# Altium footprint library retroBreadboard_v1i1.PcbLib: 9 footprints
Each footprint in its own frame and in the unit in brackets; x right, y up, seen from the top. Pads: shape width x height; smd on the part's side, far side on the other; paste and mask are expansions set on the pad; w line width, h text height; cw(c..) or ccw(c..) is an arc to the next point about the centre after c.
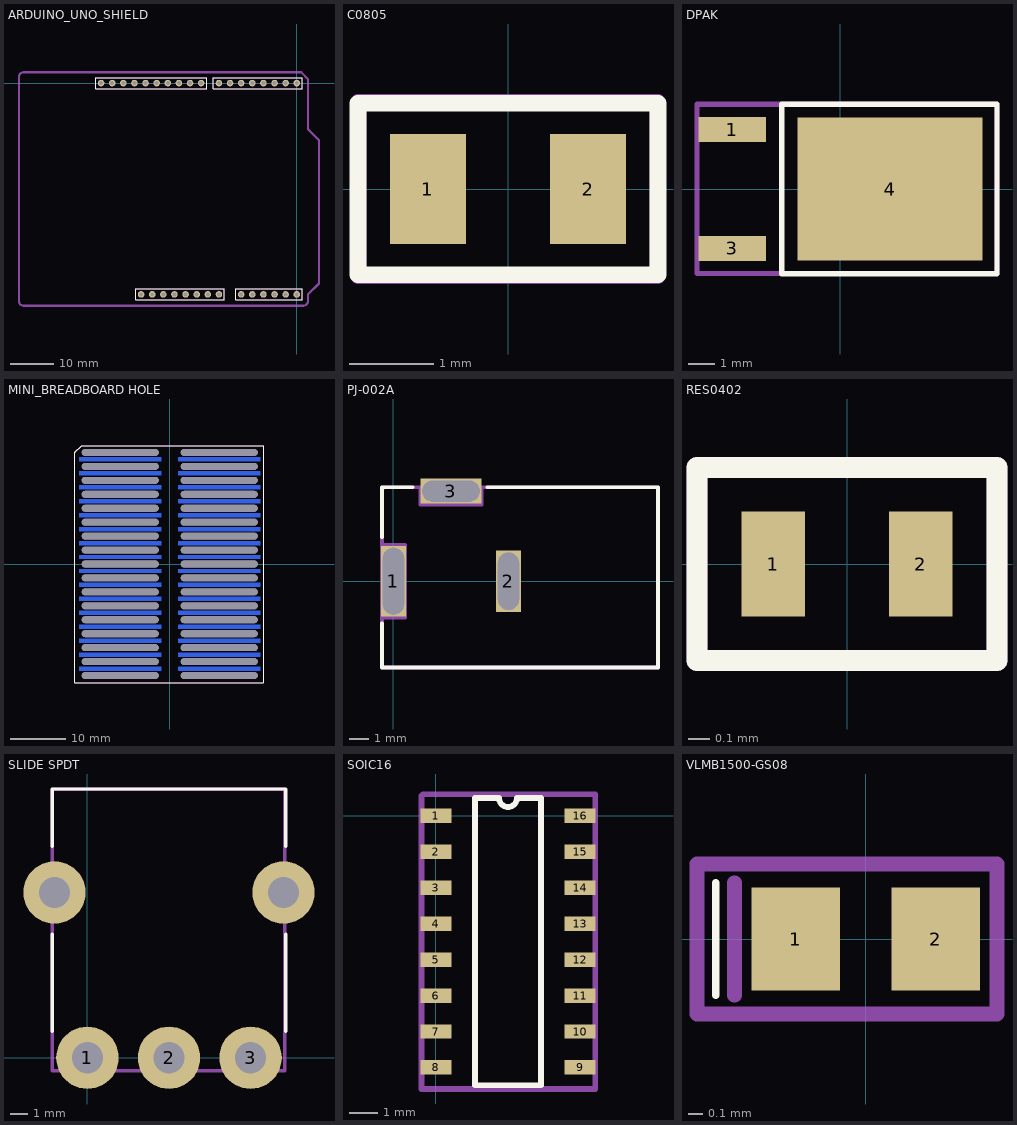
[diagram p0: the footprints below, top view; thin cyan lines are the x and y axes]

## ARDUINO_UNO_SHIELD [mm]
pads (32):
  round 1.5 hole 0.9: 1(0,0) 2(-2.54,0) 3(-5.08,0) 4(-7.62,0) 5(-10.16,0) 6(-12.7,0) 7(-15.24,0) 8(-17.78,0) 9(-21.844,0) 10(-24.384,0) 11(-26.924,0) 12(-29.464,0) 13(-32.004,0) 14(-34.544,0) 15(-37.084,0) 16(-39.624,0) 17(0,-48.26) 18(-2.54,-48.26) 19(-5.08,-48.26) 20(-7.62,-48.26) 21(-10.16,-48.26) 22(-12.7,-48.26) 23(-17.78,-48.26) 24(-20.32,-48.26) 25(-22.86,-48.26) 26(-25.4,-48.26) 27(-27.94,-48.26) 28(-30.48,-48.26) 29(-33.02,-48.26) ""(-44.704,0) ""(-42.164,0) ""(-35.56,-48.26)
Top Overlay:
  lines w0.2: -45.974,-1.27 -22.479,-1.27 -20.574,-1.27 -20.574,1.27 -45.974,1.27 -45.974,-1.27 ; -36.83,-49.53 -16.51,-49.53 -16.51,-46.99 -36.83,-46.99 -36.83,-49.53 ; -19.05,-1.27 -19.05,1.27 1.27,1.27 1.27,-1.27 -19.05,-1.27 ; -13.97,-49.53 -13.97,-46.99 1.27,-46.99 1.27,-49.53 -13.97,-49.53
Drawing:
  circle w1: c0,0 r0.105
  lines w0.2: -45.974,-1.27 -45.974,1.27 -20.574,1.27 -20.574,-1.27 -45.974,-1.27 ; -36.83,-49.53 -36.83,-46.99 -16.51,-46.99 -16.51,-49.53 -36.83,-49.53 ; -19.05,-1.27 -19.05,1.27 1.27,1.27 1.27,-1.27 -19.05,-1.27 ; -13.97,-49.53 -13.97,-46.99 1.27,-46.99 1.27,-49.53 -13.97,-49.53
  lines w0.5: -63.456,-49.842 -63.413,-50.096 -63.329,-50.329 -63.159,-50.54 -62.948,-50.71 -62.715,-50.794 -62.461,-50.837 1.546,-50.837 1.799,-50.794 2.032,-50.71 2.244,-50.54 2.413,-50.329 2.498,-50.096 2.54,-49.842 2.54,-48.298 5.079,-45.759 5.079,-13.025 2.54,-10.486 2.54,0.94 1.017,2.463 -62.461,2.463 -62.715,2.421 -62.948,2.315 -63.159,2.167 -63.329,1.955 -63.413,1.723 -63.456,1.448 -63.456,-49.842

## C0805 [mm]
pads (2):
  rect 0.9x1.3 smd: 1(-0.95,0) 2(0.95,0)
Top Overlay:
  lines w0.2: -1.778,-1.016 1.778,-1.016 1.778,1.016 -1.778,1.016 -1.778,-1.016
Drawing:
  lines w0.2: -1.775,-1.025 1.775,-1.025 1.775,1.025 -1.775,1.025 -1.775,-1.025
  text "'.Designator'" at -0.325,-0.425 h0.8
3D body "C0805.step": height 0.81, standoff 0.01, extent -1,-0.625 1,0.625

## DPAK [mm] "D-PAK, 3-Pads, Body 6.10x6.56mm (max), IPC Medium Density"
height 2.38
pads (3):
  rect 2.6x0.95 smd: 1(-4.15,2.28) 3(-4.15,-2.28)
  rect 7.1x5.5 smd: 4(1.9,0)
Top Overlay:
  lines w0.2: -2.25,-3.25 6,-3.25 6,3.25 -2.25,3.25 -2.25,-3.25
Drawing:
  circle w0.2: c-4.191,2.286 r0.092
  lines w0.2: -5.5,-3.242 -5.5,3.251 6,3.251 6,-3.242 -5.5,-3.242
  text "'.Designator'" at -1.778,-0.356 h1.52
3D body "D-PAK.step": height 2.31, standoff 0.01, extent -3.937,-3.242 5.563,3.251

## MINI_BREADBOARD HOLE [mm]
pads (66):
  rect 15x0.7 smd far side mask+0.05: 1(-9.017,19.05) 2(-9.017,16.51) 3(-9.017,13.97) 4(-9.017,11.43) 5(-9.017,8.89) 6(-9.017,6.35) 7(-9.017,3.81) 8(-9.017,1.27) 9(-9.017,-1.27) 10(-9.017,-3.81) 11(-9.017,-6.35) 12(-9.017,-8.89) 13(-9.017,-11.43) 14(-9.017,-13.97) 15(-9.017,-16.51) 16(-9.017,-19.05) 17(9.017,19.05) 18(9.017,16.51) 19(9.017,13.97) 20(9.017,11.43) 21(9.017,8.89) 22(9.017,6.35) 23(9.017,3.81) 24(9.017,1.27) 25(9.017,-1.27) 26(9.017,-3.81) 27(9.017,-6.35) 28(9.017,-8.89) 29(9.017,-11.43) 30(9.017,-13.97) 31(9.017,-16.51) 32(9.017,-19.05)
  rrect100% 14x1.2 hole 1.2 slot 14 at 0 deg unplated: ""(-9.017,-20.32) ""(-9.017,-17.78) ""(-9.017,-15.24) ""(-9.017,-12.7) ""(-9.017,-10.16) ""(-9.017,-7.62) ""(-9.017,-5.08) ""(-9.017,-2.54) ""(-9.017,0) ""(-9.017,2.54) ""(-9.017,5.08) ""(-9.017,7.62) ""(-9.017,10.16) ""(-9.017,12.7) ""(-9.017,15.24) ""(-9.017,17.78) ""(-9.017,20.32) ""(9.017,-20.32) ""(9.017,-17.78) ""(9.017,-15.24) ""(9.017,-12.7) ""(9.017,-10.16) ""(9.017,-7.62) ""(9.017,-5.08) ""(9.017,-2.54) ""(9.017,0) ""(9.017,2.54) ""(9.017,5.08) ""(9.017,7.62) ""(9.017,10.16) ""(9.017,12.7) ""(9.017,15.24) ""(9.017,17.78) ""(9.017,20.32)
Top Overlay:
  lines w0.2: -17.247,20.32 -17.272,20.32 ; -17.272,20.32 -16.027,21.565 -5.817,21.565 5.563,21.565 17.018,21.565 17.018,-21.59 -17.272,-21.59 -17.272,20.32
Drawing:
  lines w0.2: -17.247,20.32 -17.272,20.32 ; -17.272,20.32 -17.272,-21.59 17.018,-21.59 17.018,21.565 5.563,21.565 -5.817,21.565 -16.027,21.565 -17.272,20.32
  text "'.Designator'" at 0,-7.62 h2
3D body "breadboard_ver2.stp": height 8.51, standoff 0.01, extent -17.25,-21.48 17.25,21.64
3D body: height 22.75, standoff -20.37, extent 43.307,9.398 43.307,9.398

## PJ-002A [mm] "CONN PWR JACK 2X5.5MM SOLDER"
pads (3):
  rect 1.3x3.7 hole 1.1 slot 3.5 at 90 deg: 1(0,0)
  rect 1.3x3.2 hole 1.1 slot 3 at 90 deg: 2(6,0)
  rect 3.2x1.3 hole 1.1 slot 3 at 0 deg: 3(3,4.7)
Top Overlay:
  lines w0.2: -0.6,-2.2 -0.6,-4.5 13.8,-4.5 13.8,4.9 4.9,4.9 ; -0.6,2.3 -0.6,4.9 1,4.9
Drawing:
  lines w0.2: -0.6,4.9 13.8,4.9 13.8,-4.5 -0.6,-4.5 -0.6,4.8 -0.5,4.9 ; -0.5,-1.9 0.6,-1.9 0.6,1.9 -0.5,1.9 ; 1.4,4.9 1.4,4 4.6,4 4.6,4.9
  text "'.Designator'" at 2.667,-0.889 h1
3D body "PJ-002AH.STEP": height 11.05, standoff -3.45, extent -0.6,-4.5 13.8,4.9

## RES0402 [mm]
pads (2):
  rect 0.3x0.5 smd mask+0.02: 1(-0.35,0) 2(0.35,0)
Top Overlay:
  lines w0.1: -0.711,-0.457 0.711,-0.457 0.711,0.457 -0.711,0.457 -0.711,-0.457
Drawing:
  lines w0.1: -0.711,-0.457 0.711,-0.457 0.711,0.457 -0.711,0.457 -0.711,-0.457
  text "'.Designator'" at -0.66,-0.254 h0.5
3D body "res0402.step": height 0.25, standoff 0, extent -0.5,-0.25 0.5,0.25

## SLIDE SPDT [mm] "500SSP1S1M6QEA"
pads (5):
  round 3.6 hole 1.8: 1(0,0) 2(4.7,0) 3(9.4,0) ""(-1.9,9.53) ""(11.3,9.53)
Top Overlay:
  lines w0.2: -2.032,1.524 -2.032,7.112 ; -2.032,12.192 -2.032,15.494 11.43,15.494 11.43,12.192 ; 11.43,1.524 11.43,7.112
Drawing:
  lines w0.2: -2.032,15.358 -2.032,-0.754 11.379,-0.754 11.379,15.486 -2.032,15.486
  text "'.Designator'" at 5.462,3.495 h2
3D body "1101M2S3ABE2.step": height 6.6, standoff -3.17, extent -2.032,-0.754 11.379,15.486

## SOIC16 [mm]
pads (16):
  rect 1.1x0.51 smd mask+0.02: 1(0,0) 2(0,-1.27) 3(0,-2.54) 4(0,-3.81) 5(0,-5.08) 6(0,-6.35) 7(0,-7.62) 8(0,-8.89) 9(5.1,-8.89) 10(5.1,-7.62) 11(5.1,-6.35) 12(5.1,-5.08) 13(5.1,-3.81) 14(5.1,-2.54) 15(5.1,-1.27) 16(5.1,0)
Top Overlay:
  lines w0.2: 1.385,-9.525 3.715,-9.525 3.715,0.635 2.867,0.635 cw(c2.55,0.635) 2.232,0.635 1.385,0.635 1.385,-9.525
Drawing:
  circle w0.2: c0,0 r0.08
  lines w0.2: -0.508,-9.652 5.639,-9.652 5.639,0.762 -0.457,0.762 -0.508,0.711 -0.508,-9.652
  text "'.Designator'" at 1.651,-4.572 h0.8
3D body "SOIC-16-3.step": height 1.71, standoff 0.01, extent -0.559,-9.398 5.639,0.508

## VLMB1500-GS08 [mm]
pads (2):
  rect 0.6x0.7 smd mask+0.02: 1(-0.475,0) 2(0.475,0)
Top Overlay:
  lines w0.05: -1.016,-0.381 -1.016,0.381
Drawing:
  lines w0.1: -0.889,-0.381 -0.889,0.381 ; -1.143,-0.508 -1.143,0.508 0.889,0.508 0.889,-0.508 -1.143,-0.508
  text "'.Designator'" at -0.635,-0.381 h0.8
3D body "led_0402.STEP": height 0.45, standoff 0, extent -0.505,-0.25 0.505,0.25